# Altium footprint library murata-filter.PCBLIB: 4 footprints
Each footprint in its own frame and in the unit in brackets; x right, y up, seen from the top. Pads: shape width x height; smd on the part's side, far side on the other; paste and mask are expansions set on the pad; w line width, h text height; cw(c..) or ccw(c..) is an arc to the next point about the centre after c.
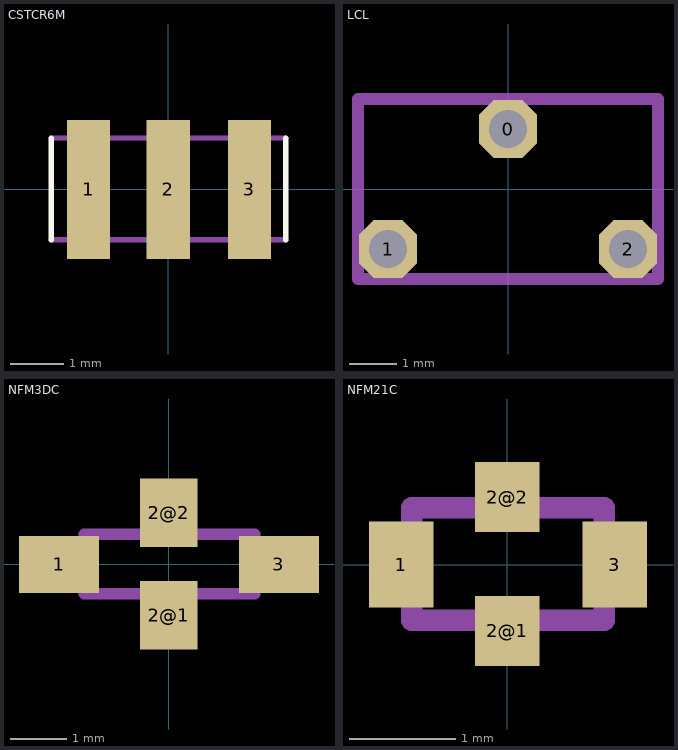
[diagram p0: the footprints below, top view; thin cyan lines are the x and y axes]

## CSTCR6M [mil]
pads (3):
  rect 32x103 smd: 1(-59.06,0) 2(0,0) 3(60,0)
Top Overlay:
  lines w4: -86.61,-37.4 -86.61,38 ; 87,-37.4 87,38
Top Solder:
  rectangle: -15.75,32 16,52
  region: 16,-31.5 -15.75,-31.5 -15.75,-51.18 16,-51.18
  rectangle: -7.87,-31.5 8,32
  rectangle: -74.8,32 -43.31,52
  region: -43.31,-31.5 -74.8,-31.5 -74.8,-51.18 -43.31,-51.18
  rectangle: -66.93,-31.5 -51.18,32
  rectangle: 44,32 75,52
  region: 75,-31.5 44,-31.5 44,-51.18 75,-51.18
  rectangle: 52,-31.5 67,32
Mechanical 16:
  lines w4: -86.61,-37.4 87,-37.4 ; -86.61,38 87,38

## LCL [mil]
pads (3):
  oct 48x48 hole 32: 0(0,50) 1(-100,-50) 2(100,-50)
Mechanical 16:
  lines w10: -125,-75 -125,75 125,75 125,-75 -125,-75

## NFM3DC [mil]
pads (4):
  rect 56x40 smd: 1(-76.77,0) 3(77,0)
  rect 40x48 smd: 2@1(0,-35.43) 2@2(0,36)
Mechanical 16:
  lines w8: -59.06,-20.67 60,-20.67 60,21 -59.06,21 -59.06,-20.67

## NFM21C [mil]
pads (4):
  rect 24x32 smd: 1(-39.37,0) 3(40,0)
  rect 24x26 smd: 2@1(0,-24.61) 2@2(0,25)
Mechanical 16:
  lines w8: -35.43,-20.67 36,-20.67 36,21 -35.43,21 -35.43,-20.67
3D body: height 78.74, standoff 0, extent -39.43,-24.67 40,25